# EAGLE library part AD5262-TSSOP16 (library Neel)
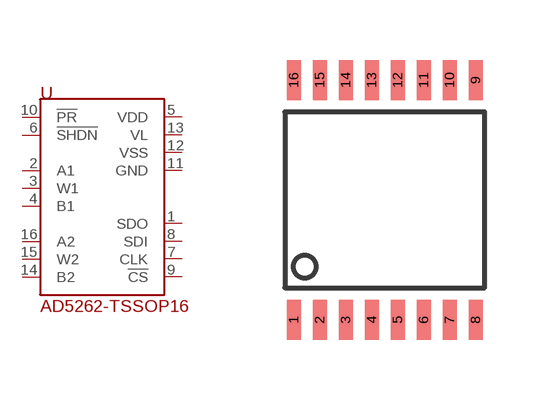
[diagram p20: symbol with the pads of TSSOP-16; footprint TSSOP-16]

Designator prefix -

## AD5262-TSSOP16  [TSSOP-16]
1  SDO
2  A1
3  W1
4  B1
5  VDD
6  !SHDN
7  CLK
8  SDI
9  !CS
10  !PR
11  GND
12  VSS
13  VL
14  B2
15  W2
16  A2

## Footprint TSSOP-16 (pad centres in mm)
smd 0.35 x 1: 1 -2.275,-3; 2 -1.625,-3; 3 -0.975,-3; 4 -0.325,-3; 5 0.325,-3; 6 0.975,-3; 7 1.625,-3; 8 2.275,-3; 9 2.275,3; 10 1.625,3; 11 0.975,3; 12 0.325,3; 13 -0.325,3; 14 -0.975,3; 15 -1.625,3; 16 -2.275,3